# Altium schematic symbol library 12V_1A_V1I1_SCHLib.SchLib: 2 symbols
Pins are listed as number, name and electrical type; pins without a type are passive.

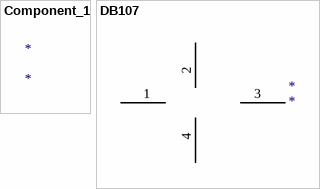
[diagram p0: symbols Component_1 to DB107]

## Component_1
designator *

## DB107
designator *
Single-phase Glass Passivated Silicon Bridge Rectifier; Manufacturer: Rectron; Manufacturer Part Number: DB107; Max Surge Current: 40A; Max Reverse Leakage Current: 5uA; RoHS: Yes; Category: Rectifier Diodes; Number of Pins: 1; Min Operating Temperature: -55°C; Max Operating Temperature: 150°C; Packaging: Bulk; Package Quantity: 2500; Length: 8.8mm; Width: 6.5mm; Height: 3.4mm; RoHS Compliant: Yes; ComponentLink1URL: http://www.mouser.com/ds/2/345/db101-107-32844.pdf?src-supplier=Mouser; ComponentLink1Description: http://www.mouser.com/ds/2/345/db101-107-32844.pdf?src-supplier=Mouser; Supplier 1: Mouser; Supplier Part Number 1: 583-DB107; Pricing 1: 1=0.40000, 10=0.40000, 50=0.40000, 100=0.34600, 1000=0.25500, 10000=0.19800 (USD)
pins: 1, 2, 3, 4